# EAGLE library part 5584ТМ2 (library std-logic-5584series)
АЕЯР.431200.209 ТУ 5584ТМ2У, 5584ТМ2АУ - Два D-триггера с установкой и сбросом.
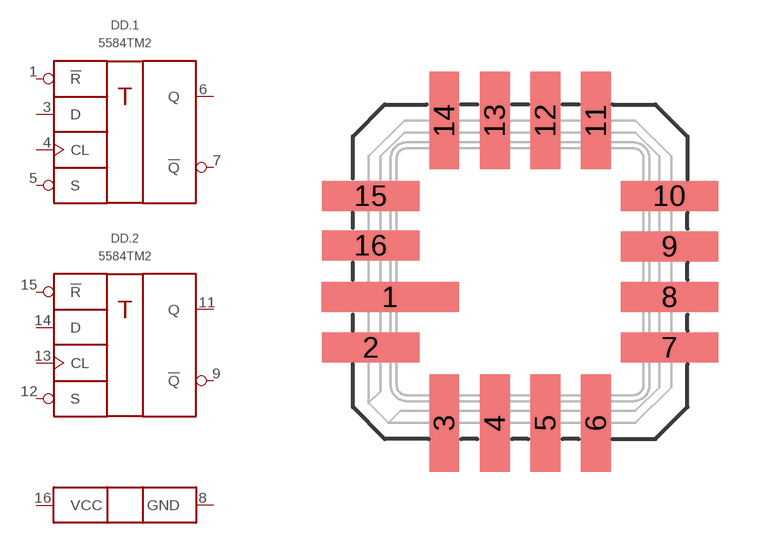
[diagram p21: symbol with the pads of 5119.16-А; footprint 5119.16-А]

Designator prefix DD; gates .1=5584ТМ2 .2=5584ТМ2 G$1=5584_PWR

## 5584ТМ2У  [5119.16-А]
1  .1:!R  in
3  .1:D  in
4  .1:CL  in
5  .1:S  in
6  .1:Q  out
7  .1:!Q  out
8  G$1:GND  pwr
9  .2:!Q  out
11  .2:Q  out
12  .2:S  in
13  .2:CL  in
14  .2:D  in
15  .2:!R  in
16  G$1:VCC  pwr

## 5584ТМ2АУ  [5119.16-А]
Pads as for 5119.16-А

## Footprint 5119.16-А (pad centres in mm)
smd 3.45 x 0.75: 1 -3.26,-0.635
smd 2.45 x 0.75: 2 -3.75,-1.905; 7 3.75,-1.905; 8 3.75,-0.635; 9 3.75,0.635; 10 3.75,1.905; 15 -3.75,1.905; 16 -3.75,0.66
smd 0.75 x 2.45: 3 -1.905,-3.8; 4 -0.635,-3.8; 5 0.635,-3.8; 6 1.905,-3.8; 11 1.905,3.8; 12 0.635,3.8; 13 -0.635,3.8; 14 -1.905,3.8